# EAGLE library part BEAGLEBONE_BLACK (library 2000dB)
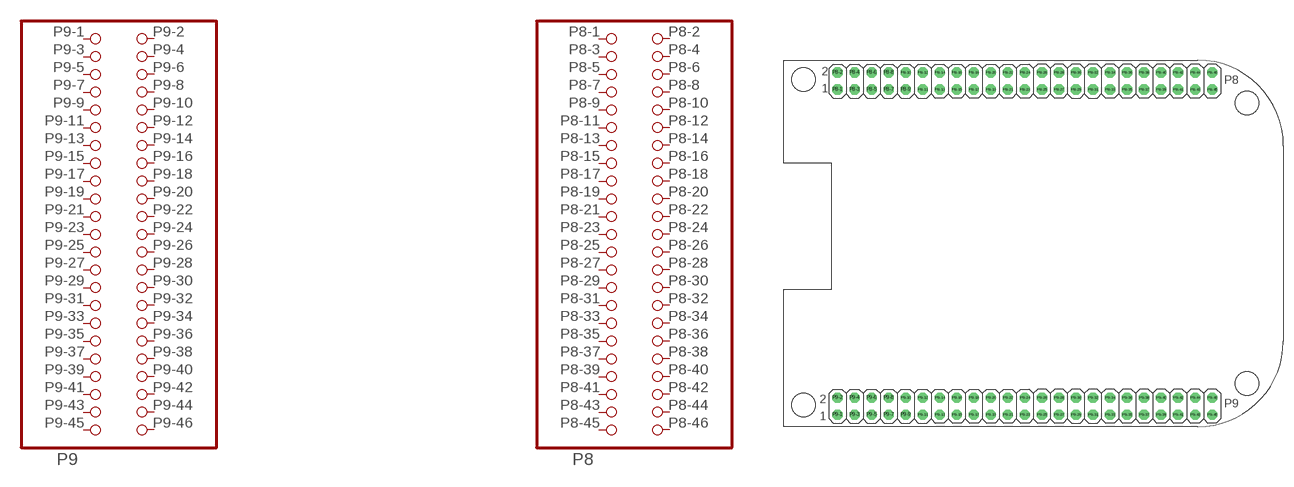
[diagram p16: symbol with the pads of BEAGLEBONE_BLACK; footprint BEAGLEBONE_BLACK]

Designator prefix -

## BEAGLEBONE_BLACK  [BEAGLEBONE_BLACK]
P8-1  P8-1  pwr
P8-2  P8-2  pwr
P8-3  P8-3  pas
P8-4  P8-4  pas
P8-5  P8-5  pas
P8-6  P8-6  pas
P8-7  P8-7  pas
P8-8  P8-8  pas
P8-9  P8-9  pas
P8-10  P8-10  pas
P8-11  P8-11  pas
P8-12  P8-12  pas
P8-13  P8-13  pas
P8-14  P8-14  pas
P8-15  P8-15  pas
P8-16  P8-16  pas
P8-17  P8-17  pas
P8-18  P8-18  pas
P8-19  P8-19  pas
P8-20  P8-20  pas
P8-21  P8-21  pas
P8-22  P8-22  pas
P8-23  P8-23  pas
P8-24  P8-24  pas
P8-25  P8-25  pas
P8-26  P8-26  pas
P8-27  P8-27  pas
P8-28  P8-28  pas
P8-29  P8-29  pas
P8-30  P8-30  pas
P8-31  P8-31  pas
P8-32  P8-32  pas
P8-33  P8-33  pas
P8-34  P8-34  pas
P8-35  P8-35  pas
P8-36  P8-36  pas
P8-37  P8-37  pas
P8-38  P8-38  pas
P8-39  P8-39  pas
P8-40  P8-40  pas
P8-41  P8-41  pas
P8-42  P8-42  pas
P8-43  P8-43  pas
P8-44  P8-44  pas
P8-45  P8-45  pas
P8-46  P8-46  pas
P9-1  P9-1  pwr
P9-2  P9-2  pwr
P9-3  P9-3  pwr
P9-4  P9-4  pwr
P9-5  P9-5  pwr
P9-6  P9-6  pwr
P9-7  P9-7  pas
P9-8  P9-8  pas
P9-9  P9-9  pas
P9-10  P9-10  pas
P9-11  P9-11  pas
P9-12  P9-12  pas
P9-13  P9-13  pas
P9-14  P9-14  pas
P9-15  P9-15  pas
P9-16  P9-16  pas
P9-17  P9-17  pas
P9-18  P9-18  pas
P9-19  P9-19  pas
P9-20  P9-20  pas
P9-21  P9-21  pas
P9-22  P9-22  pas
P9-23  P9-23  pas
P9-24  P9-24  pas
P9-25  P9-25  pas
P9-26  P9-26  pas
P9-27  P9-27  pas
P9-28  P9-28  pas
P9-29  P9-29  pas
P9-30  P9-30  pas
P9-31  P9-31  pas
P9-32  P9-32  pas
P9-33  P9-33  pas
P9-34  P9-34  pas
P9-35  P9-35  pas
P9-36  P9-36  pas
P9-37  P9-37  pas
P9-38  P9-38  pas
P9-39  P9-39  pas
P9-40  P9-40  pas
P9-41  P9-41  pas
P9-42  P9-42  pas
P9-43  P9-43  pas
P9-44  P9-44  pas
P9-45  P9-45  pwr
P9-46  P9-46  pwr

## Footprint BEAGLEBONE_BLACK (pad centres in mm)
drill 1.016 octagon: P8-1 -28.44,22.01; P8-2 -28.44,24.55; P8-3 -25.9,22.01; P8-4 -25.9,24.55; P8-5 -23.36,22.01; P8-6 -23.36,24.55; P8-7 -20.82,22.01; P8-8 -20.82,24.55; P8-9 -18.28,22.01; P8-10 -18.28,24.55; P8-11 -15.74,22.01; P8-12 -15.74,24.55; P8-13 -13.2,22.01; P8-14 -13.2,24.55; P8-15 -10.66,22.01; P8-16 -10.66,24.55; P8-17 -8.12,22.01; P8-18 -8.12,24.55; P8-19 -5.58,22.01; P8-20 -5.58,24.55; P8-21 -3.04,22.01; P8-22 -3.04,24.55; P8-23 -0.5,22.01; P8-24 -0.5,24.55; P8-25 2.04,22.01; P8-26 2.04,24.55; P8-27 4.58,22.01; P8-28 4.58,24.55; P8-29 7.12,22.01; P8-30 7.12,24.55; P8-31 9.66,22.01; P8-32 9.66,24.55; P8-33 12.2,22.01; P8-34 12.2,24.55; P8-35 14.74,22.01; P8-36 14.74,24.55; P8-37 17.28,22.01; P8-38 17.28,24.55; P8-39 19.82,22.01; P8-40 19.82,24.55; P8-41 22.36,22.01; P8-42 22.36,24.55; P8-43 24.9,22.01; P8-44 24.9,24.55; P8-45 27.44,22.01; P8-46 27.44,24.55; P9-1 -28.44,-26.49; P9-2 -28.44,-23.95; P9-3 -25.9,-26.49; P9-4 -25.9,-23.95; P9-5 -23.36,-26.49; P9-6 -23.36,-23.95; P9-7 -20.82,-26.49; P9-8 -20.82,-23.95; P9-9 -18.28,-26.49; P9-10 -18.28,-23.95; P9-11 -15.74,-26.49; P9-12 -15.74,-23.95; P9-13 -13.2,-26.49; P9-14 -13.2,-23.95; P9-15 -10.66,-26.49; P9-16 -10.66,-23.95; P9-17 -8.12,-26.49; P9-18 -8.12,-23.95; P9-19 -5.58,-26.49; P9-20 -5.58,-23.95; P9-21 -3.04,-26.49; P9-22 -3.04,-23.95; P9-23 -0.5,-26.49; P9-24 -0.5,-23.95; P9-25 2.04,-26.49; P9-26 2.04,-23.95; P9-27 4.58,-26.49; P9-28 4.58,-23.95; P9-29 7.12,-26.49; P9-30 7.12,-23.95; P9-31 9.66,-26.49; P9-32 9.66,-23.95; P9-33 12.2,-26.49; P9-34 12.2,-23.95; P9-35 14.74,-26.49; P9-36 14.74,-23.95; P9-37 17.28,-26.49; P9-38 17.28,-23.95; P9-39 19.82,-26.49; P9-40 19.82,-23.95; P9-41 22.36,-26.49; P9-42 22.36,-23.95; P9-43 24.9,-26.49; P9-44 24.9,-23.95; P9-45 27.44,-26.49; P9-46 27.44,-23.95
hole 3.5 at -33.492,23.547
hole 3.5 at 32.608,20.03
hole 3.5 at 32.608,-21.87
hole 3.5 at -33.492,-25.07